# Altium schematic symbol library TG-Lib.SchLib: 20 symbols
Pins are listed as number, name and electrical type; pins without a type are passive.

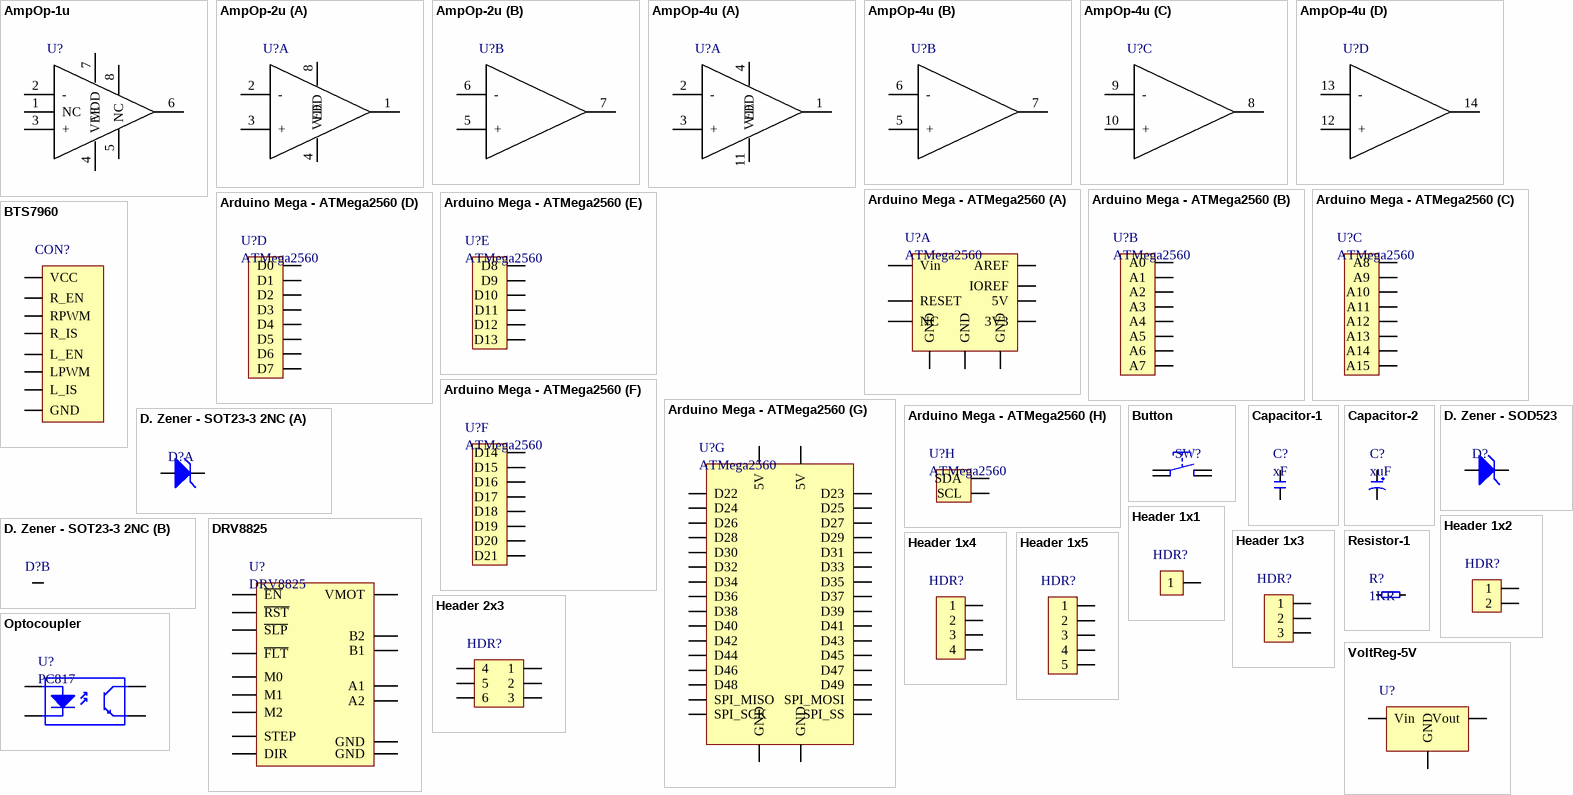
[diagram p0: symbols AmpOp-1u to VoltReg-5V]

## AmpOp-1u
designator U?  (value not drawn)
AmpOp SingleSupply Rail-to-Rail; Part n: MCP601
footprint SOIC-8
pins: 1 NC, 2 -, 3 +, 4 VEE, 5 NC, 6 OUT, 7 VDD, 8 NC

## AmpOp-2u
designator U?  (value not drawn)
AmpOp Single Supply IC Rail-to-Rail with 2 units; Part n: MCP602
footprint SOIC-8
part A pins: 1 NC, 2 -, 3 +, 4 VEE, 8 VDD
part B pins: 5 +, 6 -, 7 VDD

## AmpOp-4u
designator U?  (value not drawn)
AmpOp Single Supply IC Rail-to-Rail with 4 units; Part n: LM324
footprint SOIC-14
part A pins: 1 NC, 2 -, 3 +, 4 VDD, 11 VEE
part B pins: 5 +, 6 -, 7 VDD
part C pins: 8 VDD, 9 -, 10 +
part D pins: 12 +, 13 -, 14 VDD

## Arduino Mega - ATMega2560
designator U?, comment ATMega2560
Arduino Mega shield-like controller
footprint Arduino-Mega2560
part A pins: 1 NC, 2 IOREF, 3 RESET, 4 3V3, 5 5V, 6 GND, 7 GND, 8 Vin, 83 GND, 84 AREF
part B pins: 9 A0, 10 A1, 11 A2, 12 A3, 13 A4, 14 A5, 15 A6, 16 A7
part C pins: 17 A8, 18 A9, 19 A10, 20 A11, 21 A12, 22 A13, 23 A14, 24 A15
part D pins: 69 D0, 70 D1, 71 D2, 72 D3, 73 D4, 74 D5, 75 D6, 76 D7
part E pins: 77 D8, 78 D9, 79 D10, 80 D11, 81 D12, 82 D13
part F pins: 61 D21, 62 D20, 63 D19, 64 D18, 65 D17, 66 D16, 67 D15, 68 D14
part G pins: 25 GND, 26 GND, 27 SPI_SS, 28 SPI_SCK, 29 SPI_MOSI, 30 SPI_MISO, 31 D49, 32 D48, 33 D47, 34 D46, 35 D45, 36 D44, 37 D43, 38 D42, 39 D41, 40 D40, 41 D39, 42 D38, 43 D37, 44 D36, 45 D35, 46 D34, 47 D33, 48 D32, 49 D31, 50 D30, 51 D29, 52 D28, 53 D27, 54 D26, 55 D25, 56 D24, 57 D23, 58 D22, 59 5V, 60 5V
part H pins: 85 SDA, 86 SCL

## BTS7960
designator CON?, comment BTS7960-Coonector  (value not drawn)
Connector for BTS7960 DC-Motor H Bridge
footprint HEADER-2x4
pins: 1 RPWM, 2 LPWM, 3 R_EN, 4 L_EN, 5 R_IS, 6 L_IS, 7 VCC, 8 GND

## Button
designator SW?  (value not drawn)
Common Push-Button
footprint TL 3342 (Tactile Switch SMT)
pins: 1, 2, 3, 4

## Capacitor-1
designator C?, comment xF
Capacitor; Rating: xV; Tolerance: x%; Value: xF
footprint 0603
pins: 1, 2

## Capacitor-2
designator C?, comment xuF
Capacitor; Rating: xV; Tolerance: x%; Value: xuF
footprint C-AL-SMD-G
footprint C-AL-SMD-D8
footprint C-AL-SMD-C
footprint C-TANTALUM-CASE-A
pins: 1, 2

## D. Zener - SOD523
designator D?
Zener Diode; Part: MM5Z5V1; Value: 5.1V
footprint DO-41
footprint SOD523
pins: 1, 2

## D. Zener - SOT23-3 2NC
designator D?
Zener Diode SOT23 - 2NC; Part: BZX84C
footprint SOT-23-3
part A pins: 1, 3
part B pins: 2

## DRV8825
designator U?
DRV8825 Driver for Stepper Motors
footprint DRV8825
pins: 1 ~{EN}, 2 M0, 3 M1, 4 M2, 5 ~{RST}, 6 ~{SLP}, 7 STEP, 8 DIR, 9 VMOT, 10 GND, 11 B2, 12 B1, 13 A1, 14 A2, 15 ~{FLT}, 16 GND

## Header 1x1
designator HDR?  (value not drawn)
footprint HEADER-1x1
pins: 1

## Header 1x2
designator HDR?  (value not drawn)
Header 1X2
footprint HEADER-1X2-KK
footprint HEADER-1x2-BORNE
footprint HEADER-1X2-BORNE-25-E1000
pins: 1, 2

## Header 1x3
designator HDR?  (value not drawn)
Header 1X3
footprint Header-1x3-KK
pins: 1, 2, 3

## Header 1x4
designator HDR?  (value not drawn)
Header 1x4
footprint Header-1x4-KK
pins: 1, 2, 3, 4

## Header 1x5
designator HDR?  (value not drawn)
Header 1x4
footprint HEADER-1X5
pins: 1, 2, 3, 4, 5

## Header 2x3
designator HDR?  (value not drawn)
Header 2x3
footprint Header-2x3-Male
pins: 1, 2, 3, 4, 5, 6

## Optocoupler
designator U?, comment PC817
Optocoupler
footprint SOP-04
pins: 1, 2, 3, 4

## Resistor-1
designator R?, comment 1KR
Resistor; Tolerance: 10%; Value: 1KR
footprint 0603
pins: 1, 2

## VoltReg-5V
designator U?  (value not drawn)
CI Voltage Regulator 5V; Part: AMS1117
footprint SOT-223
pins: 0, 1 GND, 2 Vout, 3 Vin